# Altium schematic symbol library SCH - PASSIVES - LIGHT PIPE.SCHLIB: 1 symbol
Pins are listed as number, name and electrical type; pins without a type are passive.

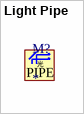
[diagram p0: symbol Light Pipe]

## Light Pipe
designator M?
text: 光; PIPE